# Altium footprint library GEVE_lib.PcbLib: 7 footprints
Each footprint in its own frame and in the unit in brackets; x right, y up, seen from the top. Pads: shape width x height; smd on the part's side, far side on the other; paste and mask are expansions set on the pad; w line width, h text height; cw(c..) or ccw(c..) is an arc to the next point about the centre after c.
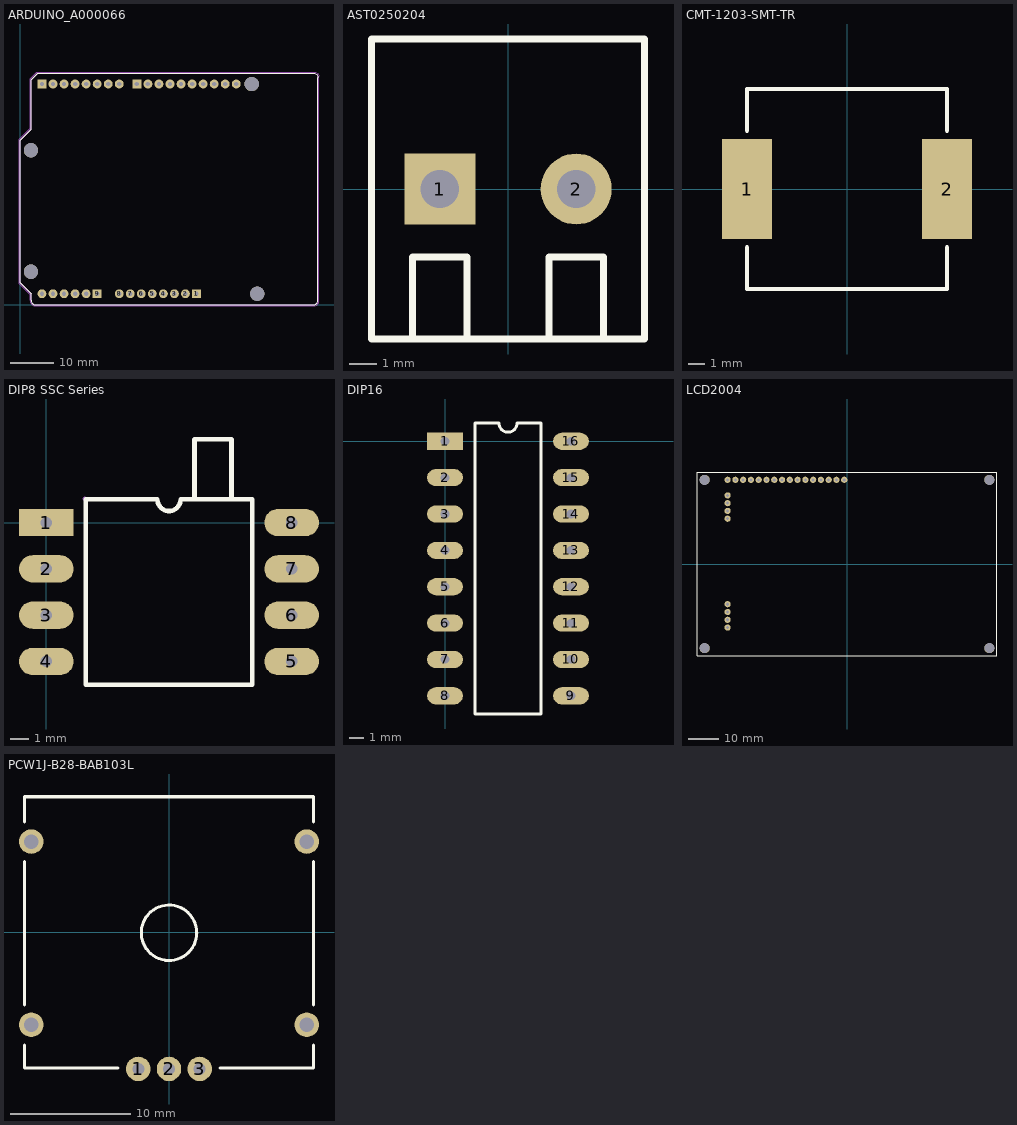
[diagram p0: the footprints below, top view; thin cyan lines are the x and y axes]

## ARDUINO_A000066 [mil]
pads (36):
  rect 80x80 hole 39.37: 1(1598.21,100.05)
  round 80 hole 40: 2(1498.21,100.05) 3(1398.21,100.05) 4(1298.21,100.05) 5(1198.21,100.05) 6(1098.21,100.05) 7(998.21,100.05) 8(898.21,100.05) 10(598.21,100.05) 11(498.21,100.05) 12(398.21,100.05) 13(298.21,100.05) 14(198.21,100.05) 16(298.21,2000.05) 17(398.21,2000.05) 18(498.21,2000.05) 19(598.21,2000.05) 20(698.21,2000.05) 21(798.21,2000.05) 22(898.21,2000.05) 24(1158.21,2000.05) 25(1258.21,2000.05) 26(1358.21,2000.05) 27(1458.21,2000.05) 28(1558.21,2000.05) 29(1658.21,2000.05) 30(1758.21,2000.05) 31(1858.21,2000.05) 32(1958.21,2000.05)
  rect 80x80 hole 40: 9(698.21,100.05) 15(198.21,2000.05) 23(1058.21,2000.05)
  round 129.92 hole 129.92 unplated: ""(98.21,300.05) ""(98.21,1400.05) ""(2098.21,2000.05) ""(2148.21,100.05)
Top Overlay:
  lines w5: 0,199.93 99.96,99.96 99.96,39.15 101.63,29.16 104.96,19.99 111.63,11.66 119.96,5 129.12,1.67 139.12,0 2659.06,0 2669.06,1.67 2678.22,5 2686.55,11.66 2693.21,19.99 2696.55,29.16 2698.21,39.15 2698.21,2058.44 2696.55,2069.27 2693.21,2078.43 2686.55,2086.76 2678.22,2092.59 2669.06,2096.76 2659.06,2098.42 159.94,2098.42 99.96,2038.44 99.96,1588.61 0,1488.64 0,199.93
Mechanical 13:
  lines w5: 0,199.93 99.96,99.96 99.96,39.15 101.63,29.16 104.96,19.99 111.63,11.66 119.96,5 129.12,1.67 139.12,0 2659.06,0 2669.06,1.67 2678.22,5 2686.55,11.66 2693.21,19.99 2696.55,29.16 2698.21,39.15 2698.21,2058.44 2696.55,2069.27 2693.21,2078.43 2686.55,2086.76 2678.22,2092.59 2669.06,2096.76 2659.06,2098.42 159.94,2098.42 99.96,2038.44 99.96,1588.61 0,1488.64 0,199.93
Mechanical 15:
  lines w1.97: 89.97,38.98 ccw(c141.4,41.67) 139.61,-9.81 ; 90.12,39.15 90.12,90.12 -9.84,190.09 -9.84,1498.48 90.12,1598.45 90.12,2048.29 150.1,2108.27 2668.9,2108.27 2678.9,2106.6 2688.06,2102.44 2696.39,2096.61 2703.06,2088.27 2706.39,2079.11 2708.06,2068.28 2708.06,39.42 2708.06,39.15 ; 139.12,-9.84 2668.9,-9.84 ; 2668.81,-9.77 ccw(c2661.52,36.3) 2708.05,39.55
3D body "Arduino Uno Final.STEP": height 603.2, standoff -3.94, extent 0,0 2942.85,2100

## AST0250204 [mm] "Female Header, Pitch 5mm, 1 x 2 Position, Height 20.5mm"
height 10
pads (2):
  rect 2.6x2.6 hole 1.4: 1(-2.5,0)
  round 2.6 hole 1.4: 2(2.5,0)
Top Overlay:
  lines w0.254: -3.5,-5.5 -3.5,-2.5 -1.5,-2.5 -1.5,-5.5 ; 1.5,-5.5 1.5,-2.5 3.5,-2.5 3.5,-5.5 ; -5,-5.5 5,-5.5 5,5.5 -5,5.5 -5,-5.5
3D body "ast0250204.stp": height 21.23, standoff -4, extent -5,-16.088 5,5.5

## CMT-1203-SMT-TR [mm] "Buzzer"
pads (2):
  rect 3x6 smd: 1(-6,0) 2(6,0)
Top Overlay:
  lines w0.254: -6,-3.5 -6,-6 6,-6 6,-3.5 ; -6,3.5 -6,6 6,6 6,3.5

## DIP8 SSC Series [mm]
pads (8):
  rect 3x1.5 hole 0.635: 1(0,0)
  oval 3x1.5 hole 0.635: 2(0,-2.54) 3(0,-5.08) 4(0,-7.62) 5(13.462,-7.62) 6(13.462,-5.08) 7(13.462,-2.54) 8(13.462,0)
Top Overlay:
  lines w0.254: 8.128,1.27 8.128,4.572 10.16,4.572 10.16,1.27 ; 2.159,-8.89 11.303,-8.89 11.303,1.27 7.366,1.27 cw(c6.731,1.27) 6.096,1.27 2.159,1.27 2.159,-8.89
Mechanical 1:
  lines w0.254: 2.1,1.3 2.1,1.3
3D body "sscdrnn160mdaa5.stp": height 5.83, standoff -3.7, extent -0.175,-8.8 13.625,3.6

## DIP16 [mm]
pads (16):
  rect 2.5x1.2 hole 0.6: 1(0,0)
  oval 2.5x1.2 hole 0.6: 2(0,-2.54) 3(0,-5.08) 4(0,-7.62) 5(0,-10.16) 6(0,-12.7) 7(0,-15.24) 8(0,-17.78) 9(8.8,-17.78) 10(8.8,-15.24) 11(8.8,-12.7) 12(8.8,-10.16) 13(8.8,-7.62) 14(8.8,-5.08) 15(8.8,-2.54) 16(8.8,0)
Top Overlay:
  lines w0.2: 2.085,-19.05 6.715,-19.05 6.715,1.27 5.035,1.27 cw(c4.4,1.27) 3.765,1.27 2.085,1.27 2.085,-19.05

## LCD2004 [mm]
pads (28):
  round 2.032 hole 1: 1(-39,-13.14) 1(-39,22.42) 2(-39,-15.68) 2(-39,19.88) 3(-39,-18.22) 3(-39,17.34) 4(-39,-20.76) 4(-39,14.8) 5(-39,27.5) 6(-36.46,27.5) 7(-33.92,27.5) 8(-31.38,27.5) 9(-28.84,27.5) 10(-26.3,27.5) 11(-23.76,27.5) 12(-21.22,27.5) 13(-18.68,27.5) 14(-16.14,27.5) 15(-13.6,27.5) 16(-11.06,27.5) 17(-8.52,27.5) 18(-5.98,27.5) 19(-3.44,27.5) 20(-0.9,27.5)
  round 3.3 hole 3.3 unplated: ""(-46.5,-27.5) ""(-46.5,27.5) ""(46.5,-27.5) ""(46.5,27.5)
Top Overlay:
  lines w0.254: -49,-30 -49,30 49,30 49,-30 -49,-30
3D body "lcd2004v2.stp": height 20.6, standoff 0, extent -49,-30 49,30.03

## PCW1J-B28-BAB103L [mil]
pads (7):
  round 80 hole 39.37: 1(-100,-446.26) 2(0,-446.26) 3(100,-446.26)
  round 80 hole 47.24: ""(-450,-301.77) ""(-450,296.65) ""(450,-301.77) ""(450,296.65)
Top Overlay:
  circle w10: c0,-1.38 r90.55
  lines w10: -472.44,-367.52 -472.44,-442.91 -167.32,-442.91 ; -472.44,-237.6 -472.44,-1.38 -472.44,230.91 ; -472.44,360.83 -472.44,380.51 -472.44,442.91 472.44,442.91 472.44,360.83 ; 167.32,-442.91 472.44,-442.91 472.44,-367.52 ; 472.44,-237.6 472.44,-1.38 472.44,230.91
3D body "pcw1j-b28-bab103l.stp": height 1417.32, standoff 0, extent -433.07,-433.07 433.07,433.08